# Altium footprint library ST-214N.PcbLib: 1 footprints
Each footprint in its own frame and in the unit in brackets; x right, y up, seen from the top. Pads: shape width x height; smd on the part's side, far side on the other; paste and mask are expansions set on the pad; w line width, h text height; cw(c..) or ccw(c..) is an arc to the next point about the centre after c.
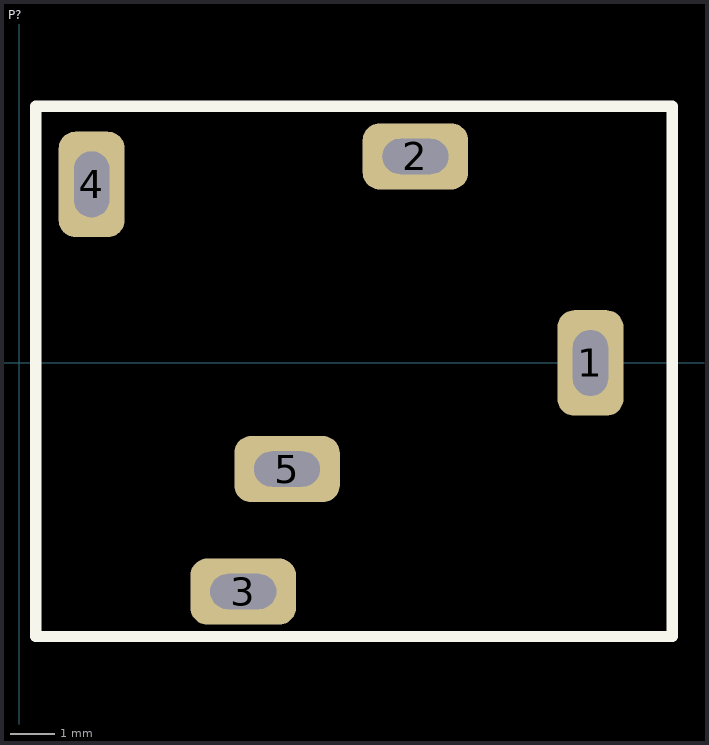
[diagram p0: the footprint, top view; thin cyan lines are the x and y axes]

## P? [mm]
pads (5):
  rrect50% 1.5x2.4 hole 1.5 slot 0.8 at 0 deg: 1(13,0) 4(1.651,4.064)
  rrect50% 2.4x1.5 hole 1.5 slot 0.8 at 90 deg: 2(9.017,4.699) 3(5.1,-5.2) 5(6.096,-2.413)
Top Overlay:
  lines w0.254: 0.381,-6.223 14.859,-6.223 14.859,5.842 0.381,5.842 0.381,-6.223
3D body "User Library-StereoJack_3_5mm_Disi.step": height 6, standoff -3.2, extent 0.421,-5.715 18.121,5.785